# Altium schematic symbol library GlassFuseClipper.SchLib: 1 symbol
Pins are listed as number, name and electrical type; pins without a type are passive.

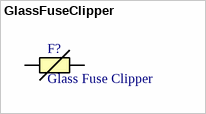
[diagram p0: symbol GlassFuseClipper]

## GlassFuseClipper
designator F?, comment Glass Fuse Clipper
footprint GlassFuseClipper
pins: 1, 2